# Altium schematic symbol library 2021-03-28_18-12-29.SchLib: 2 symbols
Pins are listed as number, name and electrical type; pins without a type are passive.

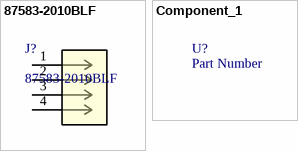
[diagram p0: symbols 87583-2010BLF to Component_1]

## 87583-2010BLF
designator J?
No Description Available; Vendor: Amphenol FCI; Built_By: EMA_UL_Team; SourceLibrary: Amphenol_FCI_2017-08-11; Manufacturer_Part_Number: 87583-2010BLF; Copyright: Copyright (C) 2018 Accelerated Designs. All rights reserved; RefDes: RefDes; Type: DEV
footprint Conn_USB-87583_AMP
pins: 1, 2, 3, 4

## Component_1
designator U?, comment Part Number
XXX - Description - Package; GRAMS Lib Spec: 2.7